# EAGLE library part MCP73871 (library Custom_Library)
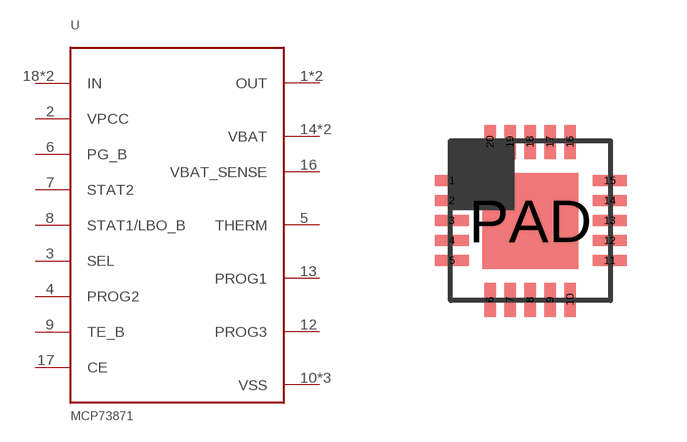
[diagram p25: symbol with the pads of QFN20; footprint QFN20]

Designator prefix U

## MCP73871  [QFN20]
1  OUT
2  VPCC
3  SEL
4  PROG2
5  THERM
6  PG_B
7  STAT2
8  STAT1/LBO_B
9  TE_B
10  VSS
11  VSS
12  PROG3
13  PROG1
14  VBAT
15  VBAT
16  VBAT_SENSE
17  CE
18  IN
19  IN
20  OUT
PAD  VSS

## Footprint QFN20 (pad centres in mm)
smd 0.85 x 0.28: 1 -1.97,1; 2 -1.97,0.5; 3 -1.97,0; 4 -1.97,-0.5; 5 -1.97,-1; 11 1.98,-1; 12 1.98,-0.5; 13 1.98,0; 14 1.98,0.5; 15 1.98,1
smd 0.28 x 0.85: 6 -1.01,-1.98; 7 -0.51,-1.98; 8 -0.01,-1.98; 9 0.49,-1.98; 10 0.99,-1.98; 16 0.99,1.97; 17 0.49,1.97; 18 -0.01,1.97; 19 -0.51,1.97; 20 -1.01,1.97
smd 2.4 x 2.4: PAD 0,-0.01